# Altium schematic symbol library SCH - DIODES - TI TPD2EUSB30DRTR.SCHLIB: 1 symbol
Pins are listed as number, name and electrical type; pins without a type are passive.

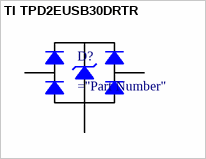
[diagram p0: symbol TI TPD2EUSB30DRTR]

## TI TPD2EUSB30DRTR
designator D?
Rectifier Diode
pins: 1 D+, 2 D-, 3 GND